# Altium schematic symbol library SCH - SENSOR - MOTION - STM LSM6DSV16X.SchLib: 1 symbol
Pins are listed as number, name and electrical type; pins without a type are passive.

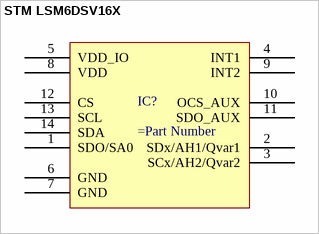
[diagram p0: symbol STM LSM6DSV16X]

## STM LSM6DSV16X
designator IC?
pins: 1 SDO/SA0, 2 SDx/AH1/Qvar1, 3 SCx/AH2/Qvar2, 4 INT1, 5 VDD_IO, 6 GND, 7 GND, 8 VDD, 9 INT2, 10 OCS_AUX, 11 SDO_AUX, 12 CS, 13 SCL, 14 SDA